# EAGLE library part SI4963 (library overvoltage)
Dual P-MOSFET 20V 6.2A
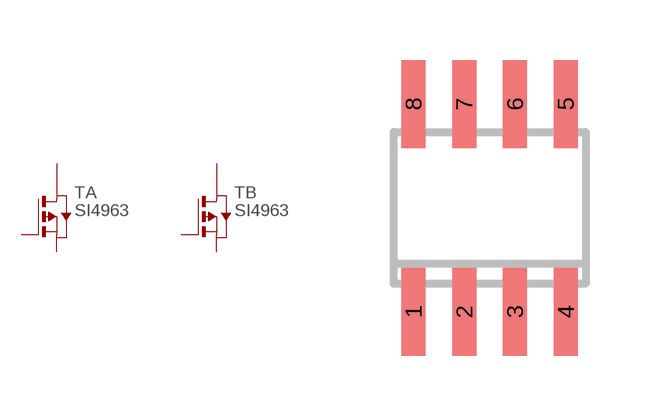
[diagram p0: symbol with the pads of SO8; footprint SO8]

Designator prefix T; gates A=P_MOSFET2D B=P_MOSFET2D

## SI4963  [SO8]
1  B:S  pas
2  B:G  pas
3  A:S  pas
4  A:G  pas
5  A:D  pas
6  A:D1  pas
7  B:D  pas
8  B:D1  pas

## Footprint SO8 (pad centres in mm)
SOIC-8 3.9mm
smd 0.6 x 2.2: 1 -1.905,-2.6; 2 -0.635,-2.6; 3 0.635,-2.6; 4 1.905,-2.6; 5 1.905,2.6; 6 0.635,2.6; 7 -0.635,2.6; 8 -1.905,2.6